# Altium schematic symbol library SCH - MISC - 2-1825027-0.SchLib: 1 symbol
Pins are listed as number, name and electrical type; pins without a type are passive.

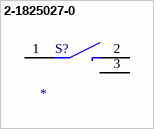
[diagram p0: symbol 2-1825027-0]

## 2-1825027-0
designator S?
pins: 1 COM1, 2 NO, 3 GND (power)